# Altium schematic symbol library XT60UPB-F.Schlib: 1 symbol
Pins are listed as number, name and electrical type; pins without a type are passive.

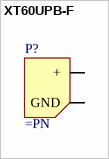
[diagram p0: symbol XT60UPB-F]

## XT60UPB-F
designator P?
pins: 1 +, 2 GND